# EAGLE library part TPS54232. (library Regulator)
The TPS54232 is a 28-V, nonsynchronous buck converter that integrates a low RDS(on) high-side MOSFET. To increase efficiency at light loads, a pulse-skipping Eco-Mode feature is automatically activated. Furthermore, the 1-μA shutdown supply current allows the device to be used in battery powered applications. Current mode control with internal slope compensation simplifies the external compensation calculations and reduces component count while allowing the use of ceramic output capacitors. A resistor divider programs the hysteresis of the input undervoltage lockout. An overvoltage transient protection circuit limits voltage overshoots during startup and transient conditions. A cycle-by cycle current limit scheme, frequency fold back, and thermal shutdown protect the device and the load in the event of an overload condition. The TPS54232 is available in an 8-pin SOIC package.
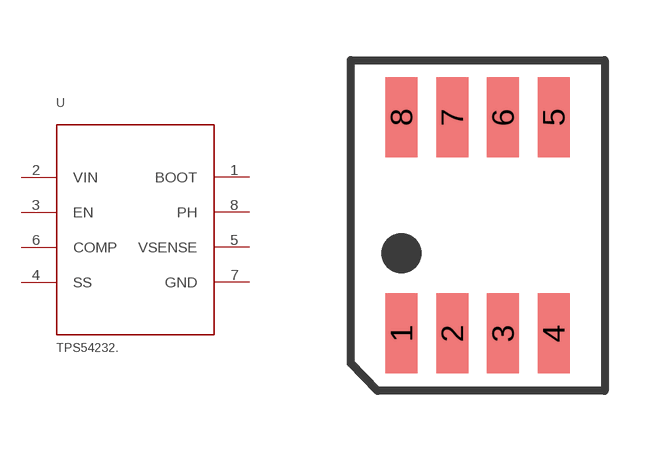
[diagram p12: symbol with the pads of SOIC-8; footprint SOIC-8]

Designator prefix U

## TPS54232.  [SOIC-8]
1  BOOT
2  VIN  pwr
3  EN
4  SS
5  VSENSE
6  COMP
7  GND
8  PH

## Footprint SOIC-8 (pad centres in mm)
smd 0.8 x 2: 1 0,0; 2 1.27,0; 3 2.54,0; 4 3.81,0; 5 3.81,5.4; 6 2.54,5.4; 7 1.27,5.4; 8 0,5.4